# EAGLE library part MCV8 (library J-HDR3.5mm)
MC1,5&8-G-3,5 [PHOENIX CONTACT,1844278] CONN HEADER SHROUDED 8POS 3.5MM MCV1,5&8-G-3,5 [PHOENIX CONTACT,1843664] CONN HEADER SHROUDED 8POS 3.5MM MCVR1,5&8-ST-3,5 [PHOENIX CONTACT,1863217] CONN PLUG 8POS SCREW 3.5MM
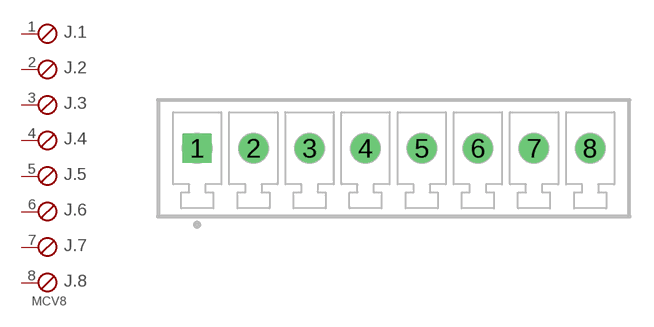
[diagram p0: symbol with the pads of MCV8; footprint MCV8]

Designator prefix J; gates .1=SKB .2=SKB .3=SKB .4=SKB .5=SKB .6=SKB .7=SKB .8=SKBV

## MCV8  [MCV8]
1  .1:1  pas
2  .2:1  pas
3  .3:1  pas
4  .4:1  pas
5  .5:1  pas
6  .6:1  pas
7  .7:1  pas
8  .8:1  pas

## Footprint MCV8 (pad centres in mm)
PHOENIX CONTACT 1843664 MCV 1,5/ 8-G-3,5 Drill Size 3/64": .0469" (1.2mm)
drill 1.2 square: 1 0,0
drill 1.2: 2 3.5,0; 3 7,0; 4 10.5,0; 5 14,0; 6 17.5,0; 7 21,0; 8 24.5,0